# EAGLE library part 61001821121 (library Eagle_BOARD-TO-BOARD_CONNECTORS (rev18b))
WR-PHD 2.54mm Dual SMT Pin Header, 18 Pins =>Code : Con_BTB_PHD_2.54_2_61001821121 <http://katalog.we-online.de/media/images/eican/Con_BTB_PHD_2.54_2_6100xx21121_pf2.jpg> Details see: http://katalog.we-online.de/en/em/610_0xx_211_21 Created 2014-05-29, Karrer Zheng 2014 (C) Würth Elektronik
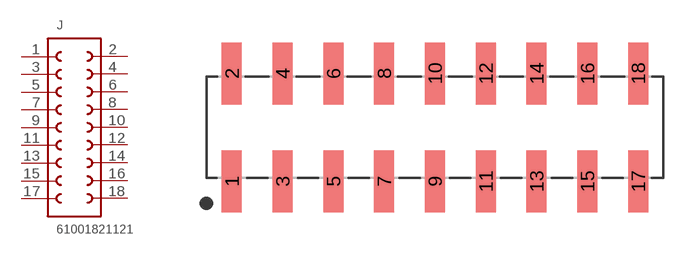
[diagram p79: symbol with the pads of 61001821121; footprint 61001821121]

Designator prefix J

## 61001821121  [61001821121]
1  1  pas
2  18  pas
3  2  pas
4  17  pas
5  3  pas
6  16  pas
7  4  pas
8  15  pas
9  5  pas
10  14  pas
11  6  pas
12  13  pas
13  7  pas
14  12  pas
15  8  pas
16  11  pas
17  9  pas
18  10  pas

## Footprint 61001821121 (pad centres in mm)
WR-PHD 2.54mm Dual SMT Pin Header, 18 Pins
smd 1 x 3.1: 1 -10.16,-2.7; 2 -10.16,2.7; 3 -7.62,-2.7; 4 -7.62,2.7; 5 -5.08,-2.7; 6 -5.08,2.7; 7 -2.54,-2.7; 8 -2.54,2.7; 9 0,-2.7; 10 0,2.7; 11 2.54,-2.7; 12 2.54,2.7; 13 5.08,-2.7; 14 5.08,2.7; 15 7.62,-2.7; 16 7.62,2.7; 17 10.16,-2.7; 18 10.16,2.7